# Altium schematic symbol library IC_Texas_Instruments_DRV8848PWP_eec.SchLib: 1 symbol
Pins are listed as number, name and electrical type; pins without a type are passive.

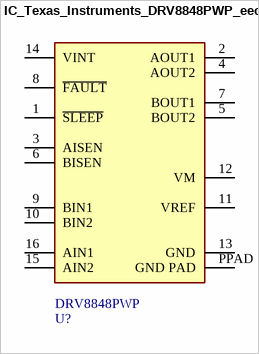
[diagram p0: symbol IC_Texas_Instruments_DRV8848PWP_eec]

## IC_Texas_Instruments_DRV8848PWP_eec
designator U?  Part Number: DRV8848PWP
IC MOTOR DRIVER PAR 16HTSSOP; Manufacturer: Texas Instruments; Voltage: 18V; Mfg Package Ident: PWP (R-PDSO-G16); helpURL: https://upverter.com/upn/revision/bddc272fce7c23e8/; ComponentLink2Description: Datasheet; Temperature: -40°C to +85°C; Package: PWP (R-PDSO-G16); Supplier 2: Mouser; Price: 1.93395746176; Supplier 1: Digi-Key; ComponentLink1URL: https://upverter.com/upn/revision/bddc272fce7c23e8/; Supplier Part Number 2: 595-DRV8848PWP; Supplier Part Number 1: 296-38514-5-ND; ComponentLink1Description: Upverter; ComponentLink2URL: http://www.ti.com/lit/ds/symlink/drv8848.pdf; RoHS: TRUE; Mouser Part Number: 595-DRV8848PWP; Temperature Range High: +85°C; Digikey Description: IC MOTOR DRIVER PAR 16HTSSOP; Digikey Part Number: 296-38514-5-ND; Lead Free: yes; Temperature Range Low: -40°C
footprint Texas_Instruments_PWP_R-PDSO-G16_0
pins: 1 ~{SLEEP}, 2 AOUT1, 3 AISEN, 4 AOUT2, 5 BOUT2, 6 BISEN, 7 BOUT1, 8 ~{FAULT}, 9 BIN1, 10 BIN2, 11 VREF, 12 VM, 13 GND, 14 VINT, 15 AIN2, 16 AIN1, PPAD GND PAD